# Altium integrated library TI Data Converters Analog to Digital Converter.IntLib: 2198 symbols (part 79 of 164)
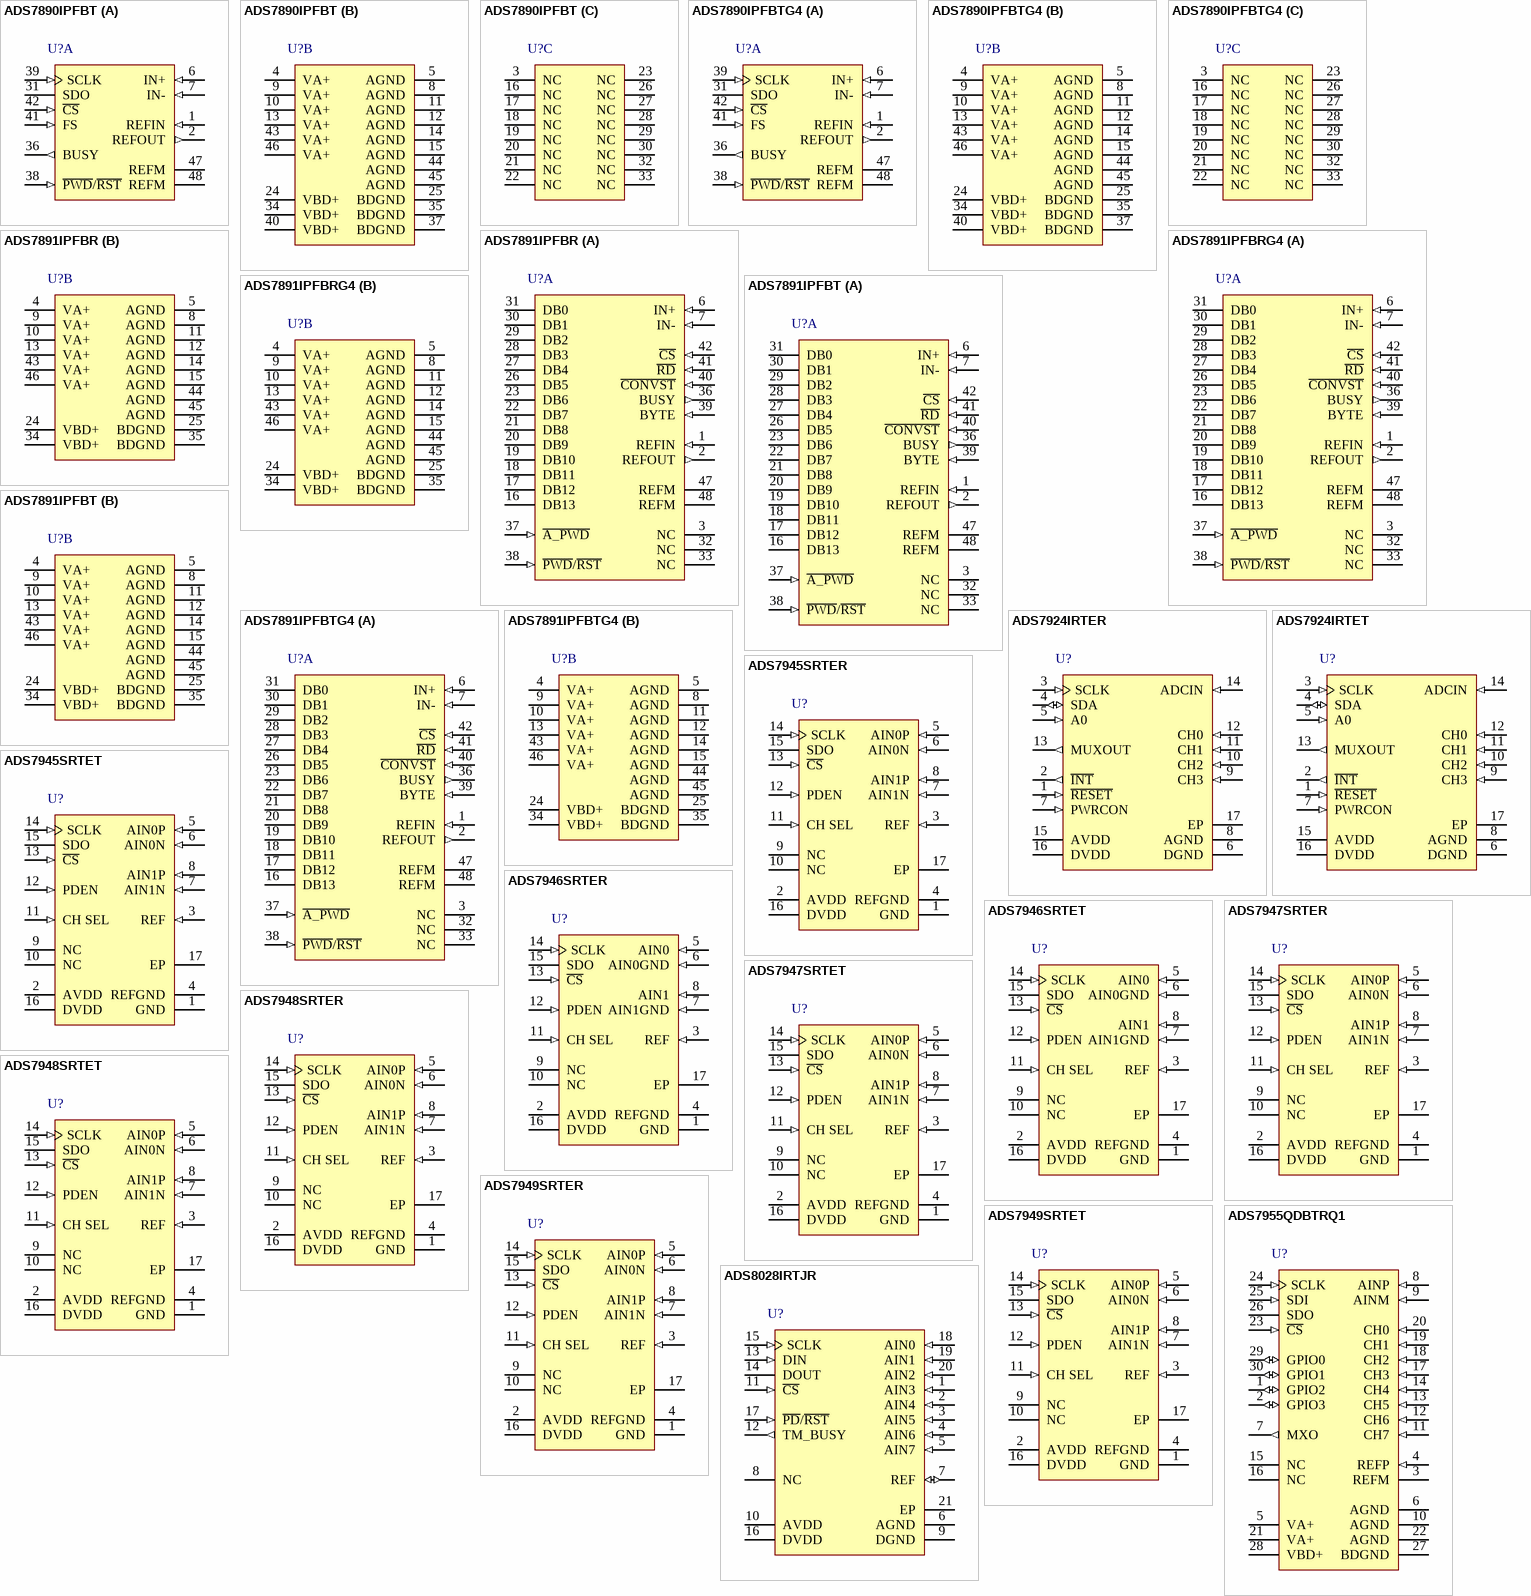
[diagram p204: symbols ADS7890IPFBT to ADS8028IRTJR]

## ADS7891IPFBTG4
designator U?
2.7 to 5.25 V Digital, 5 V Analog, 14-Bit, 3 MSPS, Parallel ADC with Reference, -40 to 85 degC, 48-pin QFP (PFB48), Green (RoHS & no Sb/Br); Manufacturer: Texas Instruments; PartNumber: ADS7891IPFBTG4; # Input Channels: 1; Analog Voltage AV/DD(Max)(V): 5.25; Analog Voltage AV/DD(Min)(V): 4.75; Architecture: SAR; Digital Supply(Min)(V): 2.7; INL(Max)(+/-LSB): 1.5; Interface: Parallel CMOS; Resolution(Bits): 14; Sample Rate (max)(SPS): 3M; SFDR(dB): 90; SINAD(dB): 77; SNR(dB): 78; SubFamily: Precision ADC (<=10MSPS); DatasheetVersion: SLAS410; PackageVersion: 4073176/B, 10/1996; PackageReference: PFB48; PackageDescription: 48-Pin Plastic Flat Pack, Body 7 x 7 mm, Pitch 0.5 mm; Supplier 1: Digi-Key; Supplier Part Number 1: ADS7844EB/2K5G4-ND; Digital Supply(Max)(V): 5.25; Eco-Plan: Green (RoHS & no Sb/Br); Mounting Technology: Surface Mount; Code_JEDEC: MS-026; ComponentLink1Description: Manufacturer URL; ComponentLink1URL: http://www.ti.com/; ComponentLink2Description: Datasheet; ComponentLink2URL: http://www.ti.com/general/docs/lit/getliterature.tsp?genericPartNumber=ADS7891&fileType=pdf; ComponentLink3Description: Package Specification; ComponentLink3URL: http://www.ti.com/lit/ml/mtqf019a/mtqf019a.pdf
footprint TI-PFB48_N (QFP, 48-Leads, Body 7x7mm, Pitch 0.5mm, IPC Medium Density)
footprint TI-PFB48_L (QFP, 48-Leads, Body 7x7mm, Pitch 0.5mm, IPC High Density)
footprint TI-PFB48_M (QFP, 48-Leads, Body 7x7mm, Pitch 0.5mm, IPC Low Density)
part A pins: 1 REFIN (in) "Reference (positive) input. Needs to be decoupled with REFM pin using 0.1-uF bypass capacitor and 1-uF storage capacitor.", 2 REFOUT (out) "Internal reference output. To be shorted to REFIN pin when internal reference is used. Do not connect to REFIN pin when external reference is used. Always needs to be decoupled with AGND using 0.1-uF bypass capacitor.", 3 NC "No connection pins.", 6 IN+ (in) "Non inverting analog input channel", 7 IN- (in) "Inverting analog input channel", 16 DB13 (hiz), 17 DB12 (hiz), 18 DB11 (hiz), 19 DB10 (hiz), 20 DB9 (hiz), 21 DB8 (hiz), 22 DB7 (hiz), 23 DB6 (hiz), 26 DB5 (hiz), 27 DB4 (hiz), 28 DB3 (hiz), 29 DB2 (hiz), 30 DB1 (hiz), 31 DB0 (hiz), 32 NC "No connection pins.", 33 NC "No connection pins.", 36 BUSY (out) "Status output. This pin is high when a conversion is in progress.", 37 ~{A_PWD} (in) "Nap mode enable, active low", 38 ~{PWD}/~{RST} (in) "Active low input, acts as device power down/device reset signal.", 39 BYTE (in) "Byte select input. Used for 8-bit bus reading. 0: No fold back. 1: Lower byte D[5:0] is folded back to high byte so D5 is available in D13 place.", 40 ~{CONVST} (in) "Conversion start. The rising edge starts the acquisition. The falling edge of this input ends the acquisition and starts the conversion. Refer to the timing diagrams for more details.", 41 ~{RD} (in) "Active low synchronization pulse for the parallel output. When C\S\ is low, this serves as the output enable and puts the previous conversion results on the bus.", 42 ~{CS} (in) "Chip Select. Active low signal enables chip operation like acquisition start, conversion start, bus release from 3-state. Refer to the timing diagrams for more details.", 47 REFM (power) "Reference ground. To be connected to analog ground plane.", 48 REFM (power) "Reference ground. To be connected to analog ground plane."
part B pins: 4 VA+ (power) "Analog power supplies. Refer to Table 3 for layout guidelines.", 5 AGND (power) "Analog ground pins. Need to be shorted to analog ground plane below the device.", 8 AGND (power) "Analog ground pins. Need to be shorted to analog ground plane below the device.", 9 VA+ (power) "Analog power supplies. Refer to Table 3 for layout guidelines.", 10 VA+ (power) "Analog power supplies. Refer to Table 3 for layout guidelines.", 11 AGND (power) "Analog ground pins. Need to be shorted to analog ground plane below the device.", 12 AGND (power) "Analog ground pins. Need to be shorted to analog ground plane below the device.", 13 VA+ (power) "Analog power supplies. Refer to Table 3 for layout guidelines.", 14 AGND (power) "Analog ground pins. Need to be shorted to analog ground plane below the device.", 15 AGND (power) "Analog ground pins. Need to be shorted to analog ground plane below the device.", 24 VBD+ (power) "Digital power supply for all digital inputs and outputs. Refer to Table 3 for layout guidelines.", 25 BDGND (power) "Digital ground for all digital inputs and outputs. Needs to be shorted to analog ground plane below the device.", 34 VBD+ (power) "Digital power supply for all digital inputs and outputs. Refer to Table 3 for layout guidelines.", 35 BDGND (power) "Digital ground for all digital inputs and outputs. Needs to be shorted to analog ground plane below the device.", 43 VA+ (power) "Analog power supplies. Refer to Table 3 for layout guidelines.", 44 AGND (power) "Analog ground pins. Need to be shorted to analog ground plane below the device.", 45 AGND (power) "Analog ground pins. Need to be shorted to analog ground plane below the device.", 46 VA+ (power) "Analog power supplies. Refer to Table 3 for layout guidelines."

## ADS7924IRTER
designator U?
12-Bit, 4-Channel Mux Input SAR ADC with Intelligent System Power Control, -40 to 85 degC, 16-pin QFN (RTE16), Green (RoHS & no Sb/Br); Manufacturer: Texas Instruments; PartNumber: ADS7924IRTER; # Input Channels: 4; Analog Voltage AV/DD(Max)(V): 5.5; Analog Voltage AV/DD(Min)(V): 2.2; Digital Supply(Min)(V): 1.65; INL(Max)(+/-LSB): 1.5; Interface: Serial I2C; Resolution(Bits): 12; Sample Rate (max)(SPS): 100k; SubFamily: Precision ADC (<=10MSPS); DatasheetVersion: SBAS482A; PackageVersion: 4205254/D, 01/2011; PackageReference: RTE16-1700X1700TP; PackageDescription: 16-Pin Plastic Flat Pack, Body 3 x 3 mm, Pitch 0.5 mm; Supplier 1: Digi-Key; Supplier Part Number 1: ADS7844EBG4-ND; Architecture: SAR; Digital Supply(Max)(V): 5.5; Eco-Plan: Green (RoHS & no Sb/Br); Mounting Technology: Surface Mount; Code_JEDEC: MO-220; ComponentLink1Description: Manufacturer URL; ComponentLink1URL: http://www.ti.com/; ComponentLink2Description: Datasheet; ComponentLink2URL: http://www.ti.com/general/docs/lit/getliterature.tsp?genericPartNumber=ADS7924&fileType=pdf; ComponentLink3Description: Package Specification; ComponentLink3URL: http://www.ti.com/litv/pdf/mpqf149c
footprint TI-RTE16-1700X1700TP_V (QFN, 16-Leads, Body 3x3mm, Pitch 0.5mm, Thermal Pad 1.7x1.7mm)
pins: 1 ~{RESET} (in) "External reset, active low", 2 ~{INT} (out) "Interrupt pin, active low; generated when input voltage is beyond programmed threshold", 3 SCLK (in) "Serial clock input", 4 SDA (io) "Serial data", 5 A0 (in) "I2C address selection", 6 DGND (power) "Digital ground", 7 PWRCON (in) "Power control pin to control shutdown/power-up of external op amp", 8 AGND (power) "Analog ground", 9 CH3 (in) "Input channel 3", 10 CH2 (in) "Input channel 2", 11 CH1 (in) "Input channel 1", 12 CH0 (in) "Input channel 0", 13 MUXOUT (out) "Multiplexer output", 14 ADCIN (in) "ADC input", 15 AVDD (power) "Analog supply", 16 DVDD (power) "Digital supply", 17 EP (power) "Connect to AGND."

## ADS7924IRTET
designator U?
12-Bit, 4-Channel Mux Input SAR ADC with Intelligent System Power Control, -40 to 85 degC, 16-pin QFN (RTE16), Green (RoHS & no Sb/Br); Manufacturer: Texas Instruments; PartNumber: ADS7924IRTET; # Input Channels: 4; Analog Voltage AV/DD(Max)(V): 5.5; Analog Voltage AV/DD(Min)(V): 2.2; Digital Supply(Min)(V): 1.65; INL(Max)(+/-LSB): 1.5; Interface: Serial I2C; Resolution(Bits): 12; Sample Rate (max)(SPS): 100k; SubFamily: Precision ADC (<=10MSPS); DatasheetVersion: SBAS482A; PackageVersion: 4205254/D, 01/2011; PackageReference: RTE16-1700X1700TP; PackageDescription: 16-Pin Plastic Flat Pack, Body 3 x 3 mm, Pitch 0.5 mm; Supplier 1: Digi-Key; Supplier Part Number 1: ADS7844EG4-ND; Architecture: SAR; Digital Supply(Max)(V): 5.5; Eco-Plan: Green (RoHS & no Sb/Br); Mounting Technology: Surface Mount; Code_JEDEC: MO-220; ComponentLink1Description: Manufacturer URL; ComponentLink1URL: http://www.ti.com/; ComponentLink2Description: Datasheet; ComponentLink2URL: http://www.ti.com/general/docs/lit/getliterature.tsp?genericPartNumber=ADS7924&fileType=pdf; ComponentLink3Description: Package Specification; ComponentLink3URL: http://www.ti.com/litv/pdf/mpqf149c
footprint TI-RTE16-1700X1700TP_V (QFN, 16-Leads, Body 3x3mm, Pitch 0.5mm, Thermal Pad 1.7x1.7mm)
pins: 1 ~{RESET} (in) "External reset, active low", 2 ~{INT} (out) "Interrupt pin, active low; generated when input voltage is beyond programmed threshold", 3 SCLK (in) "Serial clock input", 4 SDA (io) "Serial data", 5 A0 (in) "I2C address selection", 6 DGND (power) "Digital ground", 7 PWRCON (in) "Power control pin to control shutdown/power-up of external op amp", 8 AGND (power) "Analog ground", 9 CH3 (in) "Input channel 3", 10 CH2 (in) "Input channel 2", 11 CH1 (in) "Input channel 1", 12 CH0 (in) "Input channel 0", 13 MUXOUT (out) "Multiplexer output", 14 ADCIN (in) "ADC input", 15 AVDD (power) "Analog supply", 16 DVDD (power) "Digital supply", 17 EP (power) "Connect to AGND."

## ADS7945SRTER
designator U?
14-Bit, 2 MSPS, Dual-Channel, Unipolar, Differential, u-Power SAR ADC, -40 to 85 degC, 16-pin QFN (RTE16), Green (RoHS & no Sb/Br); Manufacturer: Texas Instruments; PartNumber: ADS7945SRTER; # Input Channels: 2; Analog Voltage AV/DD(Max)(V): 5.25; Analog Voltage AV/DD(Min)(V): 2.7; Digital Supply(Min)(V): 1.65; INL(Max)(+/-LSB): 1.5; Interface: Serial SPI; Resolution(Bits): 14; Sample Rate (max)(SPS): 2M; SFDR(dB): 94; SINAD(dB): 83.5; SNR(dB): 84; SubFamily: Precision ADC (<=10MSPS); DatasheetVersion: SBAS539B; PackageVersion: 4205254/D, 01/2011; PackageReference: RTE16-1700X1700TP; PackageDescription: 16-Pin Plastic Flat Pack, Body 3 x 3 mm, Pitch 0.5 mm; Supplier 1: Digi-Key; Supplier Part Number 1: ADS7844N-ND; Architecture: SAR; Digital Supply(Max)(V): 5.25; Eco-Plan: Green (RoHS & no Sb/Br); Mounting Technology: Surface Mount; Code_JEDEC: MO-220; ComponentLink1Description: Manufacturer URL; ComponentLink1URL: http://www.ti.com/; ComponentLink2Description: Datasheet; ComponentLink2URL: http://www.ti.com/general/docs/lit/getliterature.tsp?genericPartNumber=ADS7945&fileType=pdf; ComponentLink3Description: Package Specification; ComponentLink3URL: http://www.ti.com/litv/pdf/mpqf149c
footprint TI-RTE16-1700X1700TP_V (QFN, 16-Leads, Body 3x3mm, Pitch 0.5mm, Thermal Pad 1.7x1.7mm)
pins: 1 GND (power) "Power supply ground; all analog and digital signals are referred with respect to this pin", 2 AVDD (power) "ADC power supply", 3 REF (in) "ADC positive reference input; decouple this pin with REFGND", 4 REFGND (power) "Reference return; short to analog ground plane", 5 AIN0P (in) "Positive analog input, channel 0", 6 AIN0N (in) "Negative analog input, channel 0", 7 AIN1N (in) "Negative analog input, channel 1", 8 AIN1P (in) "Positive analog input, channel 1", 9 NC "Not connected internally, it is recommended to externally short this pin to GND", 10 NC "Not connected internally, it is recommended to externally short this pin to GND", 11 CH SEL (in) "This pin selects the analog input channel. Low = Channel 0 High = Channel 1 It is recommended to change the channel within a window of one clock; from half a clock after the C\S\ falling edge. This change ensures the (See Datasheet)", 12 PDEN (in) "This pin enables a power-down feature if it is high at the C\S\ rising edge", 13 ~{CS} (in) "Chip select signal; active low", 14 SCLK (in) "Serial SPI clock", 15 SDO (hiz) "Serial data out", 16 DVDD (power) "Digital I/O supply", 17 EP

## ADS7945SRTET
designator U?
14-Bit, 2 MSPS, Dual-Channel, Unipolar, Differential, u-Power SAR ADC, -40 to 85 degC, 16-pin QFN (RTE16), Green (RoHS & no Sb/Br); Manufacturer: Texas Instruments; PartNumber: ADS7945SRTET; # Input Channels: 2; Analog Voltage AV/DD(Max)(V): 5.25; Analog Voltage AV/DD(Min)(V): 2.7; Digital Supply(Min)(V): 1.65; INL(Max)(+/-LSB): 1.5; Interface: Serial SPI; Resolution(Bits): 14; Sample Rate (max)(SPS): 2M; SFDR(dB): 94; SINAD(dB): 83.5; SNR(dB): 84; SubFamily: Precision ADC (<=10MSPS); DatasheetVersion: SBAS539B; PackageVersion: 4205254/D, 01/2011; PackageReference: RTE16-1700X1700TP; PackageDescription: 16-Pin Plastic Flat Pack, Body 3 x 3 mm, Pitch 0.5 mm; Supplier 1: Digi-Key; Supplier Part Number 1: 296-25902-2-ND; Architecture: SAR; Digital Supply(Max)(V): 5.25; Eco-Plan: Green (RoHS & no Sb/Br); Mounting Technology: Surface Mount; Code_JEDEC: MO-220; ComponentLink1Description: Manufacturer URL; ComponentLink1URL: http://www.ti.com/; ComponentLink2Description: Datasheet; ComponentLink2URL: http://www.ti.com/general/docs/lit/getliterature.tsp?genericPartNumber=ADS7945&fileType=pdf; ComponentLink3Description: Package Specification; ComponentLink3URL: http://www.ti.com/litv/pdf/mpqf149c
footprint TI-RTE16-1700X1700TP_V (QFN, 16-Leads, Body 3x3mm, Pitch 0.5mm, Thermal Pad 1.7x1.7mm)
pins: 1 GND (power) "Power supply ground; all analog and digital signals are referred with respect to this pin", 2 AVDD (power) "ADC power supply", 3 REF (in) "ADC positive reference input; decouple this pin with REFGND", 4 REFGND (power) "Reference return; short to analog ground plane", 5 AIN0P (in) "Positive analog input, channel 0", 6 AIN0N (in) "Negative analog input, channel 0", 7 AIN1N (in) "Negative analog input, channel 1", 8 AIN1P (in) "Positive analog input, channel 1", 9 NC "Not connected internally, it is recommended to externally short this pin to GND", 10 NC "Not connected internally, it is recommended to externally short this pin to GND", 11 CH SEL (in) "This pin selects the analog input channel. Low = Channel 0 High = Channel 1 It is recommended to change the channel within a window of one clock; from half a clock after the C\S\ falling edge. This change ensures the (See Datasheet)", 12 PDEN (in) "This pin enables a power-down feature if it is high at the C\S\ rising edge", 13 ~{CS} (in) "Chip select signal; active low", 14 SCLK (in) "Serial SPI clock", 15 SDO (hiz) "Serial data out", 16 DVDD (power) "Digital I/O supply", 17 EP

## ADS7946SRTER
designator U?
14-Bit, 2 MSPS, Dual-Channel, Unipolar, Pseudo-Differential, u-Power SAR ADC, -40 to 85 degC, 16-pin QFN (RTE16), Green (RoHS & no Sb/Br); Manufacturer: Texas Instruments; PartNumber: ADS7946SRTER; # Input Channels: 2; Analog Voltage AV/DD(Max)(V): 5.25; Analog Voltage AV/DD(Min)(V): 2.7; Digital Supply(Min)(V): 1.65; INL(Max)(+/-LSB): 2.5; Interface: Serial SPI; Resolution(Bits): 14; Sample Rate (max)(SPS): 2M; SFDR(dB): 86; SINAD(dB): 78.8; SNR(dB): 82; SubFamily: Precision ADC (<=10MSPS); DatasheetVersion: SBAS539B; PackageVersion: 4205254/D, 01/2011; PackageReference: RTE16-1700X1700TP; PackageDescription: 16-Pin Plastic Flat Pack, Body 3 x 3 mm, Pitch 0.5 mm; Supplier 1: Digi-Key; Supplier Part Number 1: ADS7844N/1KG4-ND; Architecture: SAR; Digital Supply(Max)(V): 5.25; Eco-Plan: Green (RoHS & no Sb/Br); Mounting Technology: Surface Mount; Code_JEDEC: MO-220; ComponentLink1Description: Manufacturer URL; ComponentLink1URL: http://www.ti.com/; ComponentLink2Description: Datasheet; ComponentLink2URL: http://www.ti.com/general/docs/lit/getliterature.tsp?genericPartNumber=ADS7946&fileType=pdf; ComponentLink3Description: Package Specification; ComponentLink3URL: http://www.ti.com/litv/pdf/mpqf149c
footprint TI-RTE16-1700X1700TP_V (QFN, 16-Leads, Body 3x3mm, Pitch 0.5mm, Thermal Pad 1.7x1.7mm)
pins: 1 GND (power) "Power supply ground; all analog and digital signals are referred with respect to this pin", 2 AVDD (power) "ADC power supply", 3 REF (in) "ADC positive reference input; decouple this pin with REFGND", 4 REFGND (power) "Reference return; short to analog ground plane", 5 AIN0 (in) "Positive analog input, channel 0", 6 AIN0GND (in) "Ground sense analog input, channel 0", 7 AIN1GND (in) "Ground sense analog input, channel 1", 8 AIN1 (in) "Positive analog input, channel 1", 9 NC "Not connected internally, it is recommended to externally short this pin to GND", 10 NC "Not connected internally, it is recommended to externally short this pin to GND", 11 CH SEL (in) "This pin selects the analog input channel. Low = Channel 0 High = Channel 1 It is recommended to change the channel within a window of one clock; from half a clock after the C\S\ falling edge. This change ensures the (See Datasheet)", 12 PDEN (in) "This pin enables a power-down feature if it is high at the C\S\ rising edge", 13 ~{CS} (in) "Chip select signal; active low", 14 SCLK (in) "Serial SPI clock", 15 SDO (hiz) "Serial data out", 16 DVDD (power) "Digital I/O supply", 17 EP

## ADS7946SRTET
designator U?
14-Bit, 2 MSPS, Dual-Channel, Unipolar, Pseudo-Differential, u-Power SAR ADC, -40 to 85 degC, 16-pin QFN (RTE16), Green (RoHS & no Sb/Br); Manufacturer: Texas Instruments; PartNumber: ADS7946SRTET; # Input Channels: 2; Analog Voltage AV/DD(Max)(V): 5.25; Analog Voltage AV/DD(Min)(V): 2.7; Digital Supply(Min)(V): 1.65; INL(Max)(+/-LSB): 2.5; Interface: Serial SPI; Resolution(Bits): 14; Sample Rate (max)(SPS): 2M; SFDR(dB): 86; SINAD(dB): 78.8; SNR(dB): 82; SubFamily: Precision ADC (<=10MSPS); DatasheetVersion: SBAS539B; PackageVersion: 4205254/D, 01/2011; PackageReference: RTE16-1700X1700TP; PackageDescription: 16-Pin Plastic Flat Pack, Body 3 x 3 mm, Pitch 0.5 mm; Supplier 1: Digi-Key; Supplier Part Number 1: ADS7844NB-ND; Architecture: SAR; Digital Supply(Max)(V): 5.25; Eco-Plan: Green (RoHS & no Sb/Br); Mounting Technology: Surface Mount; Code_JEDEC: MO-220; ComponentLink1Description: Manufacturer URL; ComponentLink1URL: http://www.ti.com/; ComponentLink2Description: Datasheet; ComponentLink2URL: http://www.ti.com/general/docs/lit/getliterature.tsp?genericPartNumber=ADS7946&fileType=pdf; ComponentLink3Description: Package Specification; ComponentLink3URL: http://www.ti.com/litv/pdf/mpqf149c
footprint TI-RTE16-1700X1700TP_V (QFN, 16-Leads, Body 3x3mm, Pitch 0.5mm, Thermal Pad 1.7x1.7mm)
pins: 1 GND (power) "Power supply ground; all analog and digital signals are referred with respect to this pin", 2 AVDD (power) "ADC power supply", 3 REF (in) "ADC positive reference input; decouple this pin with REFGND", 4 REFGND (power) "Reference return; short to analog ground plane", 5 AIN0 (in) "Positive analog input, channel 0", 6 AIN0GND (in) "Ground sense analog input, channel 0", 7 AIN1GND (in) "Ground sense analog input, channel 1", 8 AIN1 (in) "Positive analog input, channel 1", 9 NC "Not connected internally, it is recommended to externally short this pin to GND", 10 NC "Not connected internally, it is recommended to externally short this pin to GND", 11 CH SEL (in) "This pin selects the analog input channel. Low = Channel 0 High = Channel 1 It is recommended to change the channel within a window of one clock; from half a clock after the C\S\ falling edge. This change ensures the (See Datasheet)", 12 PDEN (in) "This pin enables a power-down feature if it is high at the C\S\ rising edge", 13 ~{CS} (in) "Chip select signal; active low", 14 SCLK (in) "Serial SPI clock", 15 SDO (hiz) "Serial data out", 16 DVDD (power) "Digital I/O supply", 17 EP

## ADS7947SRTER
designator U?
12-Bit, 2 MSPS, Dual Channel, Pseudo-Differential uPower Serial SAR ADC, -40 to 125 degC, 16-pin QFN (RTE16), Green (RoHS & no Sb/Br); Manufacturer: Texas Instruments; PartNumber: ADS7947SRTER; # Input Channels: 2; Analog Voltage AV/DD(Max)(V): 5.5; Analog Voltage AV/DD(Min)(V): 2.7; Digital Supply(Min)(V): 1.65; INL(Max)(+/-LSB): 1; Resolution(Bits): 12; Sample Rate (max)(SPS): 2M; SFDR(dB): 86; SINAD(dB): 72.75; SNR(dB): 73; SubFamily: Precision ADC (<=10MSPS); DatasheetVersion: SLAS708; PackageVersion: 4205254/D, 01/2011; PackageReference: RTE16-1700X1700TP; PackageDescription: 16-Pin Plastic Flat Pack, Body 3 x 3 mm, Pitch 0.5 mm; Supplier 1: Digi-Key; Supplier Part Number 1: ADS7844NB/1K-ND; Architecture: SAR; Digital Supply(Max)(V): 5.5; Eco-Plan: Green (RoHS & no Sb/Br); Mounting Technology: Surface Mount; Code_JEDEC: MO-220; ComponentLink1Description: Manufacturer URL; ComponentLink1URL: http://www.ti.com/; ComponentLink2Description: Datasheet; ComponentLink2URL: http://www.ti.com/general/docs/lit/getliterature.tsp?genericPartNumber=ADS7947&fileType=pdf; ComponentLink3Description: Package Specification; ComponentLink3URL: http://www.ti.com/litv/pdf/mpqf149c
footprint TI-RTE16-1700X1700TP_V (QFN, 16-Leads, Body 3x3mm, Pitch 0.5mm, Thermal Pad 1.7x1.7mm)
pins: 1 GND (power) "Power supply ground; all analog and digital signals are referred with respect to this pin", 2 AVDD (power) "ADC power supply", 3 REF (in) "ADC positive reference input; decouple this pin with REFGND", 4 REFGND (power) "Reference return; short to analog ground plane", 5 AIN0P (in) "Positive analog input, channel 0", 6 AIN0N (in) "Negative analog input, channel 0", 7 AIN1N (in) "Negative analog input, channel 1", 8 AIN1P (in) "Positive analog input, channel 1", 9 NC "Not connected internally, it is recommended to externally short this pin to GND", 10 NC "Not connected internally, it is recommended to externally short this pin to GND", 11 CH SEL (in) "This pin selects the analog input channel. Low = Channel 0 High = Channel 1 It is recommended to change the channel within a window of one clock; from half a clock after the C\S\ falling edge. This change ensures the (See Datasheet)", 12 PDEN (in) "This pin enables a power-down feature if it is high at the C\S\ rising edge", 13 ~{CS} (in) "Chip select signal; active low", 14 SCLK (in) "Serial SPI clock", 15 SDO (hiz) "Serial data out", 16 DVDD (power) "Digital I/O supply", 17 EP

## ADS7947SRTET
designator U?
12-Bit, 2 MSPS, Dual Channel, Pseudo-Differential uPower Serial SAR ADC, -40 to 125 degC, 16-pin QFN (RTE16), Green (RoHS & no Sb/Br); Manufacturer: Texas Instruments; PartNumber: ADS7947SRTET; # Input Channels: 2; Analog Voltage AV/DD(Max)(V): 5.5; Analog Voltage AV/DD(Min)(V): 2.7; Digital Supply(Min)(V): 1.65; INL(Max)(+/-LSB): 1; Resolution(Bits): 12; Sample Rate (max)(SPS): 2M; SFDR(dB): 86; SINAD(dB): 72.75; SNR(dB): 73; SubFamily: Precision ADC (<=10MSPS); DatasheetVersion: SLAS708; PackageVersion: 4205254/D, 01/2011; PackageReference: RTE16-1700X1700TP; PackageDescription: 16-Pin Plastic Flat Pack, Body 3 x 3 mm, Pitch 0.5 mm; Supplier 1: Digi-Key; Supplier Part Number 1: ADS7844NB/1KG4-ND; Architecture: SAR; Digital Supply(Max)(V): 5.5; Eco-Plan: Green (RoHS & no Sb/Br); Mounting Technology: Surface Mount; Code_JEDEC: MO-220; ComponentLink1Description: Manufacturer URL; ComponentLink1URL: http://www.ti.com/; ComponentLink2Description: Datasheet; ComponentLink2URL: http://www.ti.com/general/docs/lit/getliterature.tsp?genericPartNumber=ADS7947&fileType=pdf; ComponentLink3Description: Package Specification; ComponentLink3URL: http://www.ti.com/litv/pdf/mpqf149c
footprint TI-RTE16-1700X1700TP_V (QFN, 16-Leads, Body 3x3mm, Pitch 0.5mm, Thermal Pad 1.7x1.7mm)
pins: 1 GND (power) "Power supply ground; all analog and digital signals are referred with respect to this pin", 2 AVDD (power) "ADC power supply", 3 REF (in) "ADC positive reference input; decouple this pin with REFGND", 4 REFGND (power) "Reference return; short to analog ground plane", 5 AIN0P (in) "Positive analog input, channel 0", 6 AIN0N (in) "Negative analog input, channel 0", 7 AIN1N (in) "Negative analog input, channel 1", 8 AIN1P (in) "Positive analog input, channel 1", 9 NC "Not connected internally, it is recommended to externally short this pin to GND", 10 NC "Not connected internally, it is recommended to externally short this pin to GND", 11 CH SEL (in) "This pin selects the analog input channel. Low = Channel 0 High = Channel 1 It is recommended to change the channel within a window of one clock; from half a clock after the C\S\ falling edge. This change ensures the (See Datasheet)", 12 PDEN (in) "This pin enables a power-down feature if it is high at the C\S\ rising edge", 13 ~{CS} (in) "Chip select signal; active low", 14 SCLK (in) "Serial SPI clock", 15 SDO (hiz) "Serial data out", 16 DVDD (power) "Digital I/O supply", 17 EP

## ADS7948SRTER
designator U?
10-Bit, 2 MSPS, Dual Channel, Pseudo-Differential uPower Serial SAR ADC, -40 to 125 degC, 16-pin QFN (RTE16), Green (RoHS & no Sb/Br); Manufacturer: Texas Instruments; PartNumber: ADS7948SRTER; # Input Channels: 2; Analog Voltage AV/DD(Max)(V): 5.5; Analog Voltage AV/DD(Min)(V): 2.7; Digital Supply(Min)(V): 1.65; INL(Max)(+/-LSB): 0.5; Resolution(Bits): 10; Sample Rate (max)(SPS): 2M; SFDR(dB): 81; SINAD(dB): 61; SubFamily: Precision ADC (<=10MSPS); DatasheetVersion: SLAS708; PackageVersion: 4205254/D, 01/2011; PackageReference: RTE16-1700X1700TP; PackageDescription: 16-Pin Plastic Flat Pack, Body 3 x 3 mm, Pitch 0.5 mm; Supplier 1: Digi-Key; Supplier Part Number 1: ADS7844NBG4-ND; Architecture: SAR; Digital Supply(Max)(V): 5.5; Eco-Plan: Green (RoHS & no Sb/Br); Mounting Technology: Surface Mount; Code_JEDEC: MO-220; ComponentLink1Description: Manufacturer URL; ComponentLink1URL: http://www.ti.com/; ComponentLink2Description: Datasheet; ComponentLink2URL: http://www.ti.com/general/docs/lit/getliterature.tsp?genericPartNumber=ADS7948&fileType=pdf; ComponentLink3Description: Package Specification; ComponentLink3URL: http://www.ti.com/litv/pdf/mpqf149c
footprint TI-RTE16-1700X1700TP_V (QFN, 16-Leads, Body 3x3mm, Pitch 0.5mm, Thermal Pad 1.7x1.7mm)
pins: 1 GND (power) "Power supply ground; all analog and digital signals are referred with respect to this pin", 2 AVDD (power) "ADC power supply", 3 REF (in) "ADC positive reference input; decouple this pin with REFGND", 4 REFGND (power) "Reference return; short to analog ground plane", 5 AIN0P (in) "Positive analog input, channel 0", 6 AIN0N (in) "Negative analog input, channel 0. Note that the allowable signal swing on this pin is +/-0.2V; this pin can be grounded.", 7 AIN1N (in) "Negative analog input, channel 1. Note that the allowable signal swing on this pin is +/-0.2V; this pin can be grounded.", 8 AIN1P (in) "Positive analog input, channel 1", 9 NC "Not connected internally, it is recommended to externally short this pin to GND", 10 NC "Not connected internally, it is recommended to externally short this pin to GND", 11 CH SEL (in) "This pin selects the analog input channel. Low = channel 0, high = channel 1. It is recommended to change the channel within a window of one clock; from half a clock after the C\S\ falling edge. This change ensures the (See Datasheet)", 12 PDEN (in) "This pin enables a power-down feature if it is high at the C\S\ rising edge", 13 ~{CS} (in) "Chip select signal; active low", 14 SCLK (in) "Serial SPI clock", 15 SDO (hiz) "Serial data out", 16 DVDD (power) "Digital I/O supply", 17 EP "Exposed Pad"

## ADS7948SRTET
designator U?
10-Bit, 2 MSPS, Dual Channel, Pseudo-Differential uPower Serial SAR ADC, -40 to 125 degC, 16-pin QFN (RTE16), Green (RoHS & no Sb/Br); Manufacturer: Texas Instruments; PartNumber: ADS7948SRTET; # Input Channels: 2; Analog Voltage AV/DD(Max)(V): 5.5; Analog Voltage AV/DD(Min)(V): 2.7; Digital Supply(Min)(V): 1.65; INL(Max)(+/-LSB): 0.5; Resolution(Bits): 10; Sample Rate (max)(SPS): 2M; SFDR(dB): 81; SINAD(dB): 61; SubFamily: Precision ADC (<=10MSPS); DatasheetVersion: SLAS708; PackageVersion: 4205254/D, 01/2011; PackageReference: RTE16-1700X1700TP; PackageDescription: 16-Pin Plastic Flat Pack, Body 3 x 3 mm, Pitch 0.5 mm; Supplier 1: Digi-Key; Supplier Part Number 1: ADS7844NG4-ND; Architecture: SAR; Digital Supply(Max)(V): 5.5; Eco-Plan: Green (RoHS & no Sb/Br); Mounting Technology: Surface Mount; Code_JEDEC: MO-220; ComponentLink1Description: Manufacturer URL; ComponentLink1URL: http://www.ti.com/; ComponentLink2Description: Datasheet; ComponentLink2URL: http://www.ti.com/general/docs/lit/getliterature.tsp?genericPartNumber=ADS7948&fileType=pdf; ComponentLink3Description: Package Specification; ComponentLink3URL: http://www.ti.com/litv/pdf/mpqf149c
footprint TI-RTE16-1700X1700TP_V (QFN, 16-Leads, Body 3x3mm, Pitch 0.5mm, Thermal Pad 1.7x1.7mm)
pins: 1 GND (power) "Power supply ground; all analog and digital signals are referred with respect to this pin", 2 AVDD (power) "ADC power supply", 3 REF (in) "ADC positive reference input; decouple this pin with REFGND", 4 REFGND (power) "Reference return; short to analog ground plane", 5 AIN0P (in) "Positive analog input, channel 0", 6 AIN0N (in) "Negative analog input, channel 0. Note that the allowable signal swing on this pin is +/-0.2V; this pin can be grounded.", 7 AIN1N (in) "Negative analog input, channel 1. Note that the allowable signal swing on this pin is +/-0.2V; this pin can be grounded.", 8 AIN1P (in) "Positive analog input, channel 1", 9 NC "Not connected internally, it is recommended to externally short this pin to GND", 10 NC "Not connected internally, it is recommended to externally short this pin to GND", 11 CH SEL (in) "This pin selects the analog input channel. Low = channel 0, high = channel 1. It is recommended to change the channel within a window of one clock; from half a clock after the C\S\ falling edge. This change ensures the (See Datasheet)", 12 PDEN (in) "This pin enables a power-down feature if it is high at the C\S\ rising edge", 13 ~{CS} (in) "Chip select signal; active low", 14 SCLK (in) "Serial SPI clock", 15 SDO (hiz) "Serial data out", 16 DVDD (power) "Digital I/O supply", 17 EP "Exposed Pad"

## ADS7949SRTER
designator U?
8-Bit, 2 MSPS, Dual Channel, Pseudo-Differential, uPower Serial SAR ADC, -40 to 125 degC, 16-pin QFN (RTE16), Green (RoHS & no Sb/Br); Manufacturer: Texas Instruments; PartNumber: ADS7949SRTER; # Input Channels: 2; Analog Voltage AV/DD(Max)(V): 5.5; Analog Voltage AV/DD(Min)(V): 2.7; Digital Supply(Min)(V): 1.65; INL(Max)(+/-LSB): 0.3; Resolution(Bits): 8; Sample Rate (max)(SPS): 2M; SFDR(dB): 81; SINAD(dB): 49; SubFamily: Precision ADC (<=10MSPS); DatasheetVersion: SLAS708; PackageVersion: 4205254/D, 01/2011; PackageReference: RTE16-1700X1700TP; PackageDescription: 16-Pin Plastic Flat Pack, Body 3 x 3 mm, Pitch 0.5 mm; Supplier 1: Digi-Key; Supplier Part Number 1: ADS831E-ND; Architecture: SAR; Digital Supply(Max)(V): 5.5; Eco-Plan: Green (RoHS & no Sb/Br); Mounting Technology: Surface Mount; Code_JEDEC: MO-220; ComponentLink1Description: Manufacturer URL; ComponentLink1URL: http://www.ti.com/; ComponentLink2Description: Datasheet; ComponentLink2URL: http://www.ti.com/general/docs/lit/getliterature.tsp?genericPartNumber=ADS7949&fileType=pdf; ComponentLink3Description: Package Specification; ComponentLink3URL: http://www.ti.com/litv/pdf/mpqf149c
footprint TI-RTE16-1700X1700TP_V (QFN, 16-Leads, Body 3x3mm, Pitch 0.5mm, Thermal Pad 1.7x1.7mm)
pins: 1 GND (power) "Power supply ground; all analog and digital signals are referred with respect to this pin", 2 AVDD (power) "ADC power supply", 3 REF (in) "ADC positive reference input; decouple this pin with REFGND", 4 REFGND (power) "Reference return; short to analog ground plane", 5 AIN0P (in) "Positive analog input, channel 0", 6 AIN0N (in) "Negative analog input, channel 0", 7 AIN1N (in) "Negative analog input, channel 1", 8 AIN1P (in) "Positive analog input, channel 1", 9 NC "Not connected internally, it is recommended to externally short this pin to GND", 10 NC "Not connected internally, it is recommended to externally short this pin to GND", 11 CH SEL (in) "This pin selects the analog input channel. Low = Channel 0 High = Channel 1 It is recommended to change the channel within a window of one clock; from half a clock after the C\S\ falling edge. This change ensures the (See Datasheet)", 12 PDEN (in) "This pin enables a power-down feature if it is high at the C\S\ rising edge", 13 ~{CS} (in) "Chip select signal; active low", 14 SCLK (in) "Serial SPI clock", 15 SDO (hiz) "Serial data out", 16 DVDD (power) "Digital I/O supply", 17 EP

## ADS7949SRTET
designator U?
8-Bit, 2 MSPS, Dual Channel, Pseudo-Differential, uPower Serial SAR ADC, -40 to 125 degC, 16-pin QFN (RTE16), Green (RoHS & no Sb/Br); Manufacturer: Texas Instruments; PartNumber: ADS7949SRTET; # Input Channels: 2; Analog Voltage AV/DD(Max)(V): 5.5; Analog Voltage AV/DD(Min)(V): 2.7; Digital Supply(Min)(V): 1.65; INL(Max)(+/-LSB): 0.3; Resolution(Bits): 8; Sample Rate (max)(SPS): 2M; SFDR(dB): 81; SINAD(dB): 49; SubFamily: Precision ADC (<=10MSPS); DatasheetVersion: SLAS708; PackageVersion: 4205254/D, 01/2011; PackageReference: RTE16-1700X1700TP; PackageDescription: 16-Pin Plastic Flat Pack, Body 3 x 3 mm, Pitch 0.5 mm; Supplier 1: Digi-Key; Supplier Part Number 1: ADS831ETR-ND; Architecture: SAR; Digital Supply(Max)(V): 5.5; Eco-Plan: Green (RoHS & no Sb/Br); Mounting Technology: Surface Mount; Code_JEDEC: MO-220; ComponentLink1Description: Manufacturer URL; ComponentLink1URL: http://www.ti.com/; ComponentLink2Description: Datasheet; ComponentLink2URL: http://www.ti.com/general/docs/lit/getliterature.tsp?genericPartNumber=ADS7949&fileType=pdf; ComponentLink3Description: Package Specification; ComponentLink3URL: http://www.ti.com/litv/pdf/mpqf149c
footprint TI-RTE16-1700X1700TP_V (QFN, 16-Leads, Body 3x3mm, Pitch 0.5mm, Thermal Pad 1.7x1.7mm)
pins: 1 GND (power) "Power supply ground; all analog and digital signals are referred with respect to this pin", 2 AVDD (power) "ADC power supply", 3 REF (in) "ADC positive reference input; decouple this pin with REFGND", 4 REFGND (power) "Reference return; short to analog ground plane", 5 AIN0P (in) "Positive analog input, channel 0", 6 AIN0N (in) "Negative analog input, channel 0", 7 AIN1N (in) "Negative analog input, channel 1", 8 AIN1P (in) "Positive analog input, channel 1", 9 NC "Not connected internally, it is recommended to externally short this pin to GND", 10 NC "Not connected internally, it is recommended to externally short this pin to GND", 11 CH SEL (in) "This pin selects the analog input channel. Low = Channel 0 High = Channel 1 It is recommended to change the channel within a window of one clock; from half a clock after the C\S\ falling edge. This change ensures the (See Datasheet)", 12 PDEN (in) "This pin enables a power-down feature if it is high at the C\S\ rising edge", 13 ~{CS} (in) "Chip select signal; active low", 14 SCLK (in) "Serial SPI clock", 15 SDO (hiz) "Serial data out", 16 DVDD (power) "Digital I/O supply", 17 EP

## ADS7955QDBTRQ1
designator U?
Automotive Catalog 10-Bit, 1 MSPS, 8 Channel, Single Ended, Micro Power, Serial Interface, SAR ADC, -40 to 125 degC, 30-pin SOP (DBT30), Green (RoHS & no Sb/Br); Manufacturer: Texas Instruments; PartNumber: ADS7955QDBTRQ1; # Input Channels: 8; Analog Voltage AV/DD(Max)(V): 5.25; Analog Voltage AV/DD(Min)(V): 2.7; Digital Supply(Min)(V): 1.7; INL(Max)(+/-LSB): 0.5; Interface: Serial SPI; Resolution(Bits): 10; Sample Rate (max)(SPS): 1M; SFDR(dB): 82; SubFamily: Precision ADC (<=10MSPS); DatasheetVersion: SLAS814; PackageVersion: 4073252-5/I, 03/2011; PackageReference: DBT30; PackageDescription: 30-Pin Plastic Small Outline, Body 7.80 x 4.40 mm, Pitch 0.50 mm; Supplier 1: Digi-Key; Supplier Part Number 1: ADS831E/2K5G4-ND; Architecture: SAR; Digital Supply(Max)(V): 5.25; Eco-Plan: Green (RoHS & no Sb/Br); Mounting Technology: Surface Mount; Code_JEDEC: MO-153; ComponentLink1Description: Manufacturer URL; ComponentLink1URL: http://www.ti.com/; ComponentLink2Description: Datasheet; ComponentLink2URL: http://www.ti.com/general/docs/lit/getliterature.tsp?genericPartNumber=ADS7955-Q1&fileType=pdf; ComponentLink3Description: Package Specification; ComponentLink3URL: http://www.ti.com/lit/ml/mpds019h/mpds019h.pdf
footprint TI-DBT30_N (SOP, 30-Leads, Body 7.8x4.4mm, Pitch 0.5mm, IPC Medium Density)
footprint TI-DBT30_L (SOP, 30-Leads, Body 7.8x4.4mm, Pitch 0.5mm, IPC High Density)
footprint TI-DBT30_M (SOP, 30-Leads, Body 7.8x4.4mm, Pitch 0.5mm, IPC Low Density)
pins: 1 GPIO2 (io), 2 GPIO3 (io), 3 REFM (power) "Reference ground", 4 REFP (in) "Reference input", 5 VA+ (power) "Analog power supply", 6 AGND (power) "Analog ground", 7 MXO (out) "Multiplexer output", 8 AINP (in) "Signal input to ADC", 9 AINM (in) "ADC input ground", 10 AGND (power) "Analog ground", 11 CH7 (in) "Analog channels for multiplexer", 12 CH6 (in) "Analog channels for multiplexer", 13 CH5 (in) "Analog channels for multiplexer", 14 CH4 (in) "Analog channels for multiplexer", 15 NC "Pins internally not connected, do not float these pins", 16 NC "Pins internally not connected, do not float these pins", 17 CH3 (in) "Analog channels for multiplexer", 18 CH2 (in) "Analog channels for multiplexer", 19 CH1 (in) "Analog channels for multiplexer", 20 CH0 (in) "Analog channels for multiplexer", 21 VA+ (power) "Analog power supply", 22 AGND (power) "Analog ground", 23 ~{CS} (in) "Chip select input", 24 SCLK (in) "Serial clock input", 25 SDI (in) "Serial data input", 26 SDO (hiz) "Serial data output", 27 BDGND (power) "Digital ground", 28 VBD+ (power) "Digital I/O supply", 29 GPIO0 (io), 30 GPIO1 (io)

## ADS8028IRTJR
designator U?
12-Bit, 8-channel, 1 MSPS, SAR ADC with Internal Reference and Internal Temperature Sensor, -40 to 125 degC, 20-pin QFN (RTJ20), Green (RoHS & no Sb/Br); Manufacturer: Texas Instruments; PartNumber: ADS8028IRTJR; # Input Channels: 8; Analog Voltage AV/DD(Max)(V): 5.25; Analog Voltage AV/DD(Min)(V): 2.7; Digital Supply(Min)(V): 1.65; INL(Max)(+/-LSB): 1; Interface: Serial SPI; Resolution(Bits): 12; Sample Rate (max)(SPS): 1M; SFDR(dB): 84; SINAD(dB): 71; SNR(dB): 72; SubFamily: Precision ADC (<=10MSPS); DatasheetVersion: SBAS549B; PackageVersion: 4205505/F, 07/2011; PackageReference: RTJ20-2600X2600TP; PackageDescription: 20-Pin Plastic Flat Pack, Body 4 X 4 mm, Pitch 0.5 mm; Supplier 1: Digi-Key; Supplier Part Number 1: ADS831EG4-ND; Architecture: SAR; Digital Supply(Max)(V): 5.25; Eco-Plan: Green (RoHS & no Sb/Br); Mounting Technology: Surface Mount; ComponentLink1Description: Manufacturer URL; ComponentLink1URL: http://www.ti.com/; ComponentLink2Description: Datasheet; ComponentLink2URL: http://www.ti.com/general/docs/lit/getliterature.tsp?genericPartNumber=ADS8028&fileType=pdf; ComponentLink3Description: Package Specification; ComponentLink3URL: http://www.ti.com/lit/ml/mpqf156e/mpqf156e.pdf
footprint TI-RTJ20-2600X2600TP_V (QFN, 20-Leads, Body 4x4mm, Pitch 0.5mm, Thermal Pad 2.6 x 2.6 mm)
pins: 1 AIN3 (in) "Analog input channel 3", 2 AIN4 (in) "Analog input channel 4", 3 AIN5 (in) "Analog input channel 5", 4 AIN6 (in) "Analog input channel 6", 5 AIN7 (in) "Analog input channel 7", 6 AGND (power) "Analog ground", 7 REF (io) "ADC internal reference output or ADC external reference input", 8 NC "This pin has no internal connection. Any passive component connected to this pin does not affect device functionality.", 9 DGND (power) "Digital ground", 10 AVDD (power) "ADC operation supply voltage", 11 ~{CS} (in) "Chip select; active low logic input", 12 TM_BUSY (out) "Busy output; this pin transitions high and remains high during conversion for temperature sensor input", 13 DIN (in) "SPI data input", 14 DOUT (hiz) "SPI data output", 15 SCLK (in) "SPI clock", 16 DVDD (power) "ADC interface supply voltage", 17 ~{PD}/~{RST} (in) "Dual function pin for power-down and reset operation; active low logic input", 18 AIN0 (in) "Analog input channel 0", 19 AIN1 (in) "Analog input channel 1", 20 AIN2 (in) "Analog input channel 2", 21 EP (power) "Exposed thermal pad; this pin should be soldered to the PCB ground for proper functionality and heat dissipation"

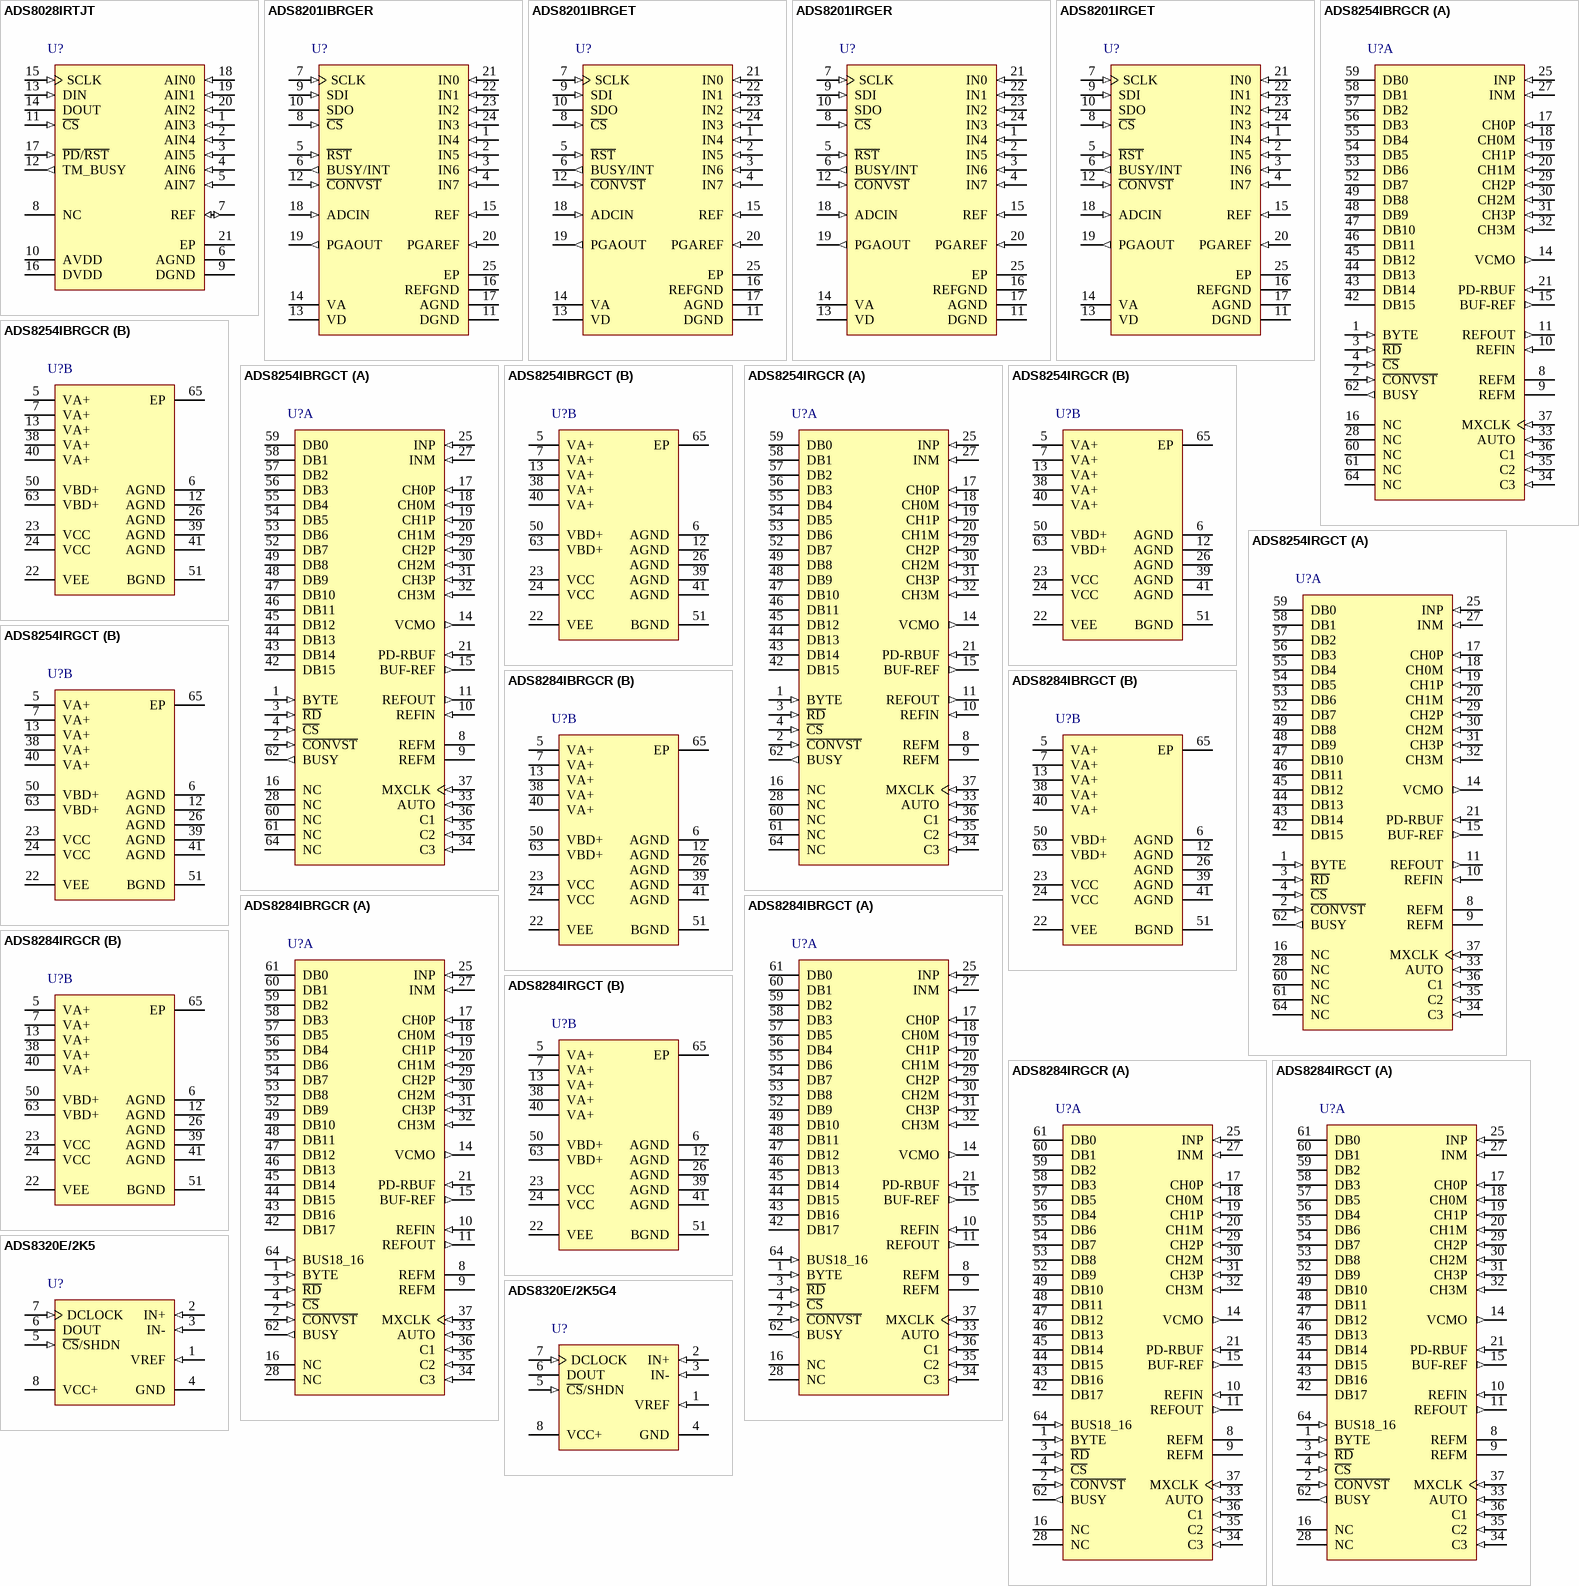
[diagram p72: symbols ADS8028IRTJT to ADS8320E/2K5G4]

## ADS8028IRTJT
designator U?
12-Bit, 8-channel, 1 MSPS, SAR ADC with Internal Reference and Internal Temperature Sensor, -40 to 125 degC, 20-pin QFN (RTJ20), Green (RoHS & no Sb/Br); Manufacturer: Texas Instruments; PartNumber: ADS8028IRTJT; # Input Channels: 8; Analog Voltage AV/DD(Max)(V): 5.25; Analog Voltage AV/DD(Min)(V): 2.7; Digital Supply(Min)(V): 1.65; INL(Max)(+/-LSB): 1; Interface: Serial SPI; Resolution(Bits): 12; Sample Rate (max)(SPS): 1M; SFDR(dB): 84; SINAD(dB): 71; SNR(dB): 72; SubFamily: Precision ADC (<=10MSPS); DatasheetVersion: SBAS549B; PackageVersion: 4205505/F, 07/2011; PackageReference: RTJ20-2600X2600TP; PackageDescription: 20-Pin Plastic Flat Pack, Body 4 X 4 mm, Pitch 0.5 mm; Supplier 1: Digi-Key; Supplier Part Number 1: ADS830E-ND; Architecture: SAR; Digital Supply(Max)(V): 5.25; Eco-Plan: Green (RoHS & no Sb/Br); Mounting Technology: Surface Mount; ComponentLink1Description: Manufacturer URL; ComponentLink1URL: http://www.ti.com/; ComponentLink2Description: Datasheet; ComponentLink2URL: http://www.ti.com/general/docs/lit/getliterature.tsp?genericPartNumber=ADS8028&fileType=pdf; ComponentLink3Description: Package Specification; ComponentLink3URL: http://www.ti.com/lit/ml/mpqf156e/mpqf156e.pdf
footprint TI-RTJ20-2600X2600TP_V (QFN, 20-Leads, Body 4x4mm, Pitch 0.5mm, Thermal Pad 2.6 x 2.6 mm)
pins: 1 AIN3 (in) "Analog input channel 3", 2 AIN4 (in) "Analog input channel 4", 3 AIN5 (in) "Analog input channel 5", 4 AIN6 (in) "Analog input channel 6", 5 AIN7 (in) "Analog input channel 7", 6 AGND (power) "Analog ground", 7 REF (io) "ADC internal reference output or ADC external reference input", 8 NC "This pin has no internal connection. Any passive component connected to this pin does not affect device functionality.", 9 DGND (power) "Digital ground", 10 AVDD (power) "ADC operation supply voltage", 11 ~{CS} (in) "Chip select; active low logic input", 12 TM_BUSY (out) "Busy output; this pin transitions high and remains high during conversion for temperature sensor input", 13 DIN (in) "SPI data input", 14 DOUT (hiz) "SPI data output", 15 SCLK (in) "SPI clock", 16 DVDD (power) "ADC interface supply voltage", 17 ~{PD}/~{RST} (in) "Dual function pin for power-down and reset operation; active low logic input", 18 AIN0 (in) "Analog input channel 0", 19 AIN1 (in) "Analog input channel 1", 20 AIN2 (in) "Analog input channel 2", 21 EP (power) "Exposed thermal pad; this pin should be soldered to the PCB ground for proper functionality and heat dissipation"

## ADS8201IBRGER
designator U?
2.2 to 5.5 V, Low-Power, 12-Bit, 100 kSPS, 8-Channel DAS with PGA and SPI(TM), -40 to 85 degC, 24-pin QFN (RGE24); Manufacturer: Texas Instruments; PartNumber: ADS8201IBRGER; # Input Channels: 8; Analog Voltage AV/DD(Max)(V): 5.5; Analog Voltage AV/DD(Min)(V): 2.2; Architecture: SAR; INL(Max)(+/-LSB): 1.5; Interface: Serial SPI; Resolution(Bits): 12; Sample Rate (max)(SPS): 100k; SubFamily: Precision ADC (<=10MSPS); DatasheetVersion: SLAS534B; PackageVersion: 4204104/G, 07/2011; PackageReference: RGE24-2450X2450TP; PackageDescription: 24-Pin Plastic Flat Pack, Body 4 x 4 mm, Pitch 0.5 mm; Supplier 1: Digi-Key; Supplier Part Number 1: ADS830ETR-ND; Digital Supply(Max)(V): 5.5; Digital Supply(Min)(V): 2.2; Mounting Technology: Surface Mount; Code_JEDEC: MO-220; ComponentLink1Description: Manufacturer URL; ComponentLink1URL: http://www.ti.com/; ComponentLink2Description: Datasheet; ComponentLink2URL: http://www.ti.com/general/docs/lit/getliterature.tsp?genericPartNumber=ADS8201&fileType=pdf; ComponentLink3Description: Package Specification; ComponentLink3URL: http://www.ti.com/litv/pdf/mpqf124f
footprint TI-RGE24-2450X2450TP_V (QFN, 24-Leads, Body 4x4mm, Pitch 0.5mm, Thermal Pad 2.45x2.45mm)
pins: 1 IN4 (in) "Input channel single-ended 4 or differential pair 3", 2 IN5 (in) "Input channel single-ended 5 or differential pair 3", 3 IN6 (in) "Input channel single-ended 6 or differential pair 4", 4 IN7 (in) "Input channel single-ended 7 or differential pair 4", 5 ~{RST} (in) "External hardware reset", 6 BUSY/INT (out) "Status output. If programmed as the BUSY pin, this pin is low (default) when a conversion is in progress. If programmed as an interrupt (INT), this pin is low for a preprogrammed duration after the end of a conversion and (See Datasheet)", 7 SCLK (in) "Serial interface clock", 8 ~{CS} (in) "Chip select input for SPI interface slave select (S\S\)", 9 SDI (in) "Serial data in", 10 SDO (hiz) "Serial data out", 11 DGND (power) "Interface ground", 12 ~{CONVST} (in) "Starts conversion", 13 VD (power) "Interface supply", 14 VA (power) "Analog supply (+2.2VDC to +5.5VDC)", 15 REF (in) "External reference input", 16 REFGND (power) "Reference ground", 17 AGND (power) "Analog ground", 18 ADCIN (in) "ADC input", 19 PGAOUT (out) "Mux output. Output can be further filtered before sending to ADCIN.", 20 PGAREF (in) "PGA Reference", 21 IN0 (in) "Analog channel single-ended 0 or differential pair 0", 22 IN1 (in) "Analog channel single-ended 1 or differential pair 0", 23 IN2 (in) "Analog channel single-ended 2 or differential pair 1", 24 IN3 (in) "Analog channel single-ended 3 or differential pair 1", 25 EP (power) "Thermal pad should be tied to AGND."

## ADS8201IBRGET
designator U?
2.2 to 5.5 V, Low-Power, 12-Bit, 100 kSPS, 8-Channel DAS with PGA and SPI(TM), -40 to 85 degC, 24-pin QFN (RGE24); Manufacturer: Texas Instruments; PartNumber: ADS8201IBRGET; # Input Channels: 8; Analog Voltage AV/DD(Max)(V): 5.5; Analog Voltage AV/DD(Min)(V): 2.2; Architecture: SAR; INL(Max)(+/-LSB): 1.5; Interface: Serial SPI; Resolution(Bits): 12; Sample Rate (max)(SPS): 100k; SubFamily: Precision ADC (<=10MSPS); DatasheetVersion: SLAS534B; PackageVersion: 4204104/G, 07/2011; PackageReference: RGE24-2450X2450TP; PackageDescription: 24-Pin Plastic Flat Pack, Body 4 x 4 mm, Pitch 0.5 mm; Supplier 1: Digi-Key; Supplier Part Number 1: ADS830E/2K5G4-ND; Digital Supply(Max)(V): 5.5; Digital Supply(Min)(V): 2.2; Mounting Technology: Surface Mount; Code_JEDEC: MO-220; ComponentLink1Description: Manufacturer URL; ComponentLink1URL: http://www.ti.com/; ComponentLink2Description: Datasheet; ComponentLink2URL: http://www.ti.com/general/docs/lit/getliterature.tsp?genericPartNumber=ADS8201&fileType=pdf; ComponentLink3Description: Package Specification; ComponentLink3URL: http://www.ti.com/litv/pdf/mpqf124f
footprint TI-RGE24-2450X2450TP_V (QFN, 24-Leads, Body 4x4mm, Pitch 0.5mm, Thermal Pad 2.45x2.45mm)
pins: 1 IN4 (in) "Input channel single-ended 4 or differential pair 3", 2 IN5 (in) "Input channel single-ended 5 or differential pair 3", 3 IN6 (in) "Input channel single-ended 6 or differential pair 4", 4 IN7 (in) "Input channel single-ended 7 or differential pair 4", 5 ~{RST} (in) "External hardware reset", 6 BUSY/INT (out) "Status output. If programmed as the BUSY pin, this pin is low (default) when a conversion is in progress. If programmed as an interrupt (INT), this pin is low for a preprogrammed duration after the end of a conversion and (See Datasheet)", 7 SCLK (in) "Serial interface clock", 8 ~{CS} (in) "Chip select input for SPI interface slave select (S\S\)", 9 SDI (in) "Serial data in", 10 SDO (hiz) "Serial data out", 11 DGND (power) "Interface ground", 12 ~{CONVST} (in) "Starts conversion", 13 VD (power) "Interface supply", 14 VA (power) "Analog supply (+2.2VDC to +5.5VDC)", 15 REF (in) "External reference input", 16 REFGND (power) "Reference ground", 17 AGND (power) "Analog ground", 18 ADCIN (in) "ADC input", 19 PGAOUT (out) "Mux output. Output can be further filtered before sending to ADCIN.", 20 PGAREF (in) "PGA Reference", 21 IN0 (in) "Analog channel single-ended 0 or differential pair 0", 22 IN1 (in) "Analog channel single-ended 1 or differential pair 0", 23 IN2 (in) "Analog channel single-ended 2 or differential pair 1", 24 IN3 (in) "Analog channel single-ended 3 or differential pair 1", 25 EP (power) "Thermal pad should be tied to AGND."